# EAGLE library part LM311M (library lbm)
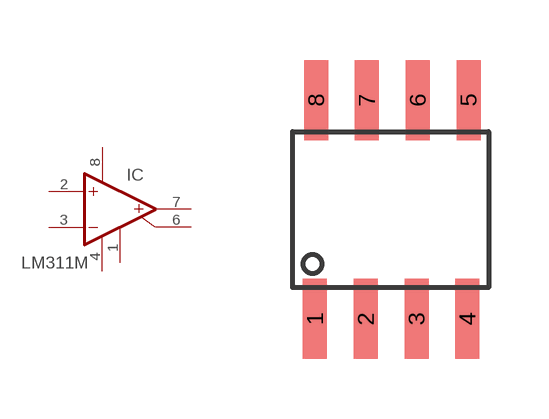
[diagram p32: symbol with the pads of LM311M; footprint LM311M]

Designator prefix IC

## LM311M  [LM311M]
1  GND  pas
2  IN+  in
3  IN-  in
4  V-  pwr
6  OUT/  pas
7  OUT  out
8  V+  pwr

## Footprint LM311M (pad centres in mm)
smd 0.6 x 2: 1 0.56,-4.68; 2 1.83,-4.68; 3 3.1,-4.68; 4 4.37,-4.68; 5 4.4,0.79; 6 3.13,0.79; 7 1.86,0.79; 8 0.59,0.79